# EAGLE library part W237-06P (library con-wago-508)
WAGO SREW CLAMP
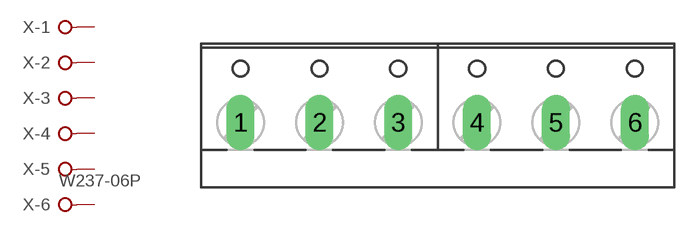
[diagram p5: symbol with the pads of W237-6P; footprint W237-6P]

Designator prefix X; gates -1=KL -2=KL -3=KL -4=KL -5=KL -6=KL+V

## W237-06P (OC_FARNELL: unknown; OC_NEWARK: unknown)  [W237-6P]
1  -1:KL  pas
2  -2:KL  pas
3  -3:KL  pas
4  -4:KL  pas
5  -5:KL  pas
6  -6:KL  pas

## Footprint W237-6P (pad centres in mm)
WAGO SREW CLAMP
drill 1.194 long: 1 -12.7,-0.635; 2 -7.62,-0.635; 3 -2.54,-0.635; 4 2.54,-0.635; 5 7.62,-0.635; 6 12.7,-0.635